# Altium footprint library Capacitor.PcbLib: 24 footprints (part 2 of 2)
Each footprint in its own frame and in the unit in brackets; x right, y up, seen from the top. Pads: shape width x height; smd on the part's side, far side on the other; paste and mask are expansions set on the pad; w line width, h text height; cw(c..) or ccw(c..) is an arc to the next point about the centre after c.
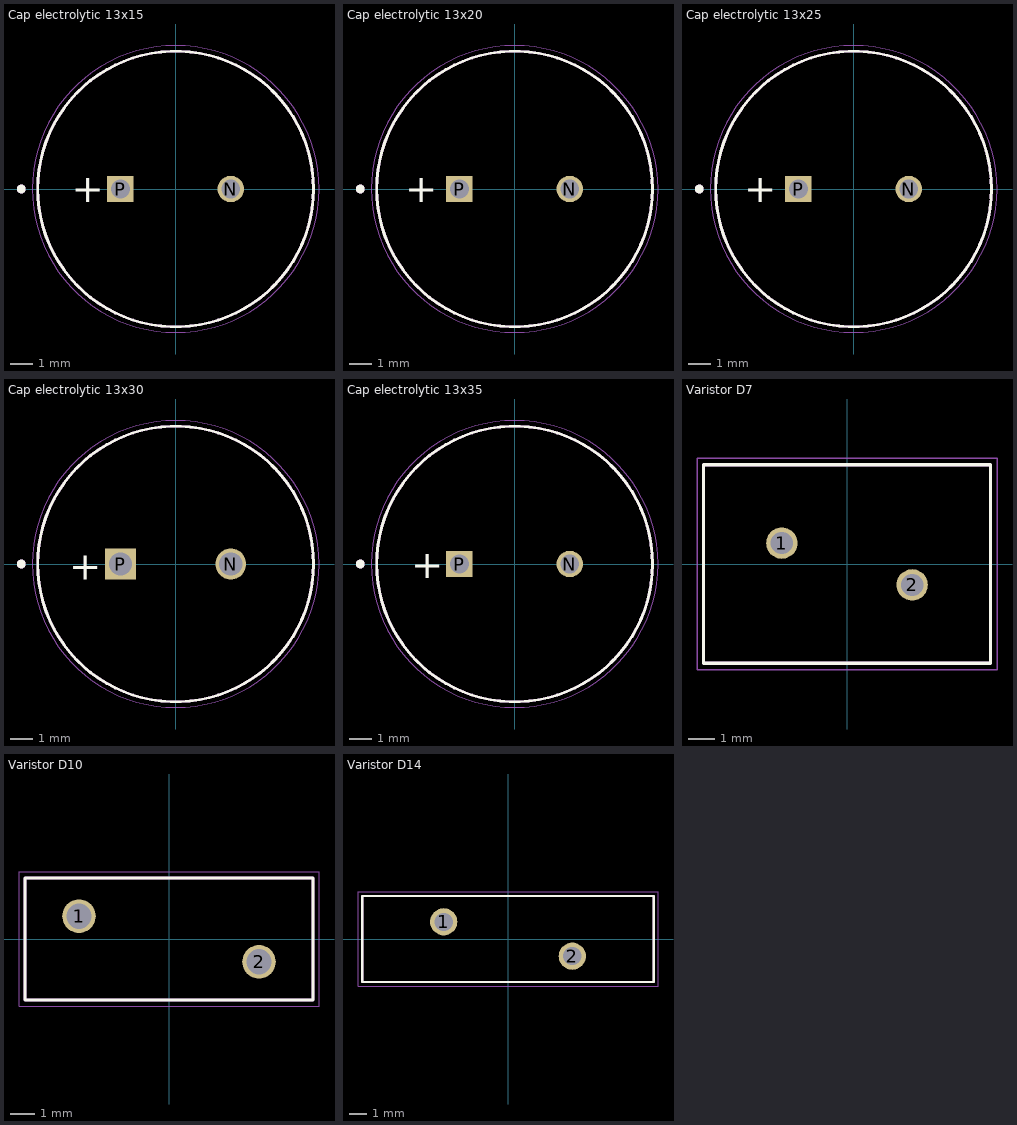
[diagram p1: the footprints below, top view; thin cyan lines are the x and y axes]

## Cap electrolytic 13x15 [mm]
pads (2):
  round 1.2 hole 0.85: N(2.5,0)
  rect 1.2x1.2 hole 0.85: P(-2.5,0)
Top Overlay:
  circle w0.2: c-7,0 r0.1
  circle w0.127: c0,0 r6.25
  text "+" at -4.699,-0.593 h1.27
Mechanical 13:
  circle w0.2: c-7,0 r0.1
  circle w0.127: c0,0 r6.25
Mechanical 15:
  circle w0.05: c0,0 r6.5
3D body "step_temp.STEP": height 15, standoff -17, extent -6.25,-6.247 6.25,6.247

## Cap electrolytic 13x20 [mm]
pads (2):
  round 1.2 hole 0.85: N(2.5,0)
  rect 1.2x1.2 hole 0.85: P(-2.5,0)
Top Overlay:
  circle w0.127: c0,0 r6.25
  circle w0.2: c-7,0 r0.1
  text "+" at -4.953,-0.593 h1.27
Mechanical 13:
  circle w0.127: c0,0 r6.25
  circle w0.2: c-7,0 r0.1
Mechanical 15:
  circle w0.05: c0,0 r6.5
3D body "step_temp.STEP": height 20, standoff -17, extent -6.25,-6.249 6.25,6.249

## Cap electrolytic 13x25 [mm]
pads (2):
  round 1.2 hole 0.85: N(2.5,0)
  rect 1.2x1.2 hole 0.85: P(-2.5,0)
Top Overlay:
  circle w0.2: c-7,0 r0.1
  circle w0.127: c0,0 r6.25
  text "+" at -4.953,-0.593 h1.27
Mechanical 13:
  circle w0.2: c-7,0 r0.1
  circle w0.127: c0,0 r6.25
Mechanical 15:
  circle w0.05: c0,0 r6.5
3D body "step_temp.STEP": height 25, standoff -17, extent -6.25,-6.246 6.25,6.246

## Cap electrolytic 13x30 [mm]
pads (2):
  round 1.4 hole 1.05: N(2.5,0)
  rect 1.4x1.4 hole 1.05: P(-2.5,0)
Top Overlay:
  circle w0.2: c-7,0 r0.1
  circle w0.127: c0,0 r6.25
  text "+" at -4.826,-0.72 h1.27
Mechanical 13:
  circle w0.2: c-7,0 r0.1
  circle w0.127: c0,0 r6.25
Mechanical 15:
  circle w0.05: c0,0 r6.5
3D body "step_temp.STEP": height 30, standoff -17, extent -6.25,-6.25 6.25,6.25

## Cap electrolytic 13x35 [mm]
pads (2):
  round 1.2 hole 0.85: N(2.5,0)
  rect 1.2x1.2 hole 0.85: P(-2.5,0)
Top Overlay:
  circle w0.127: c0,0 r6.25
  circle w0.2: c-7,0 r0.1
  text "+" at -4.677,-0.646 h1.27
Mechanical 13:
  circle w0.127: c0,0 r6.25
  circle w0.2: c-7,0 r0.1
Mechanical 15:
  circle w0.05: c0,0 r6.5
3D body "step_temp.STEP": height 35, standoff -17, extent -6.25,-6.249 6.25,6.249

## Varistor D7 [mm]
pads (2):
  round 1.2 hole 0.85: 1(-2.5,0.8) 2(2.5,-0.8)
Top Overlay:
  lines w0.127: -5.5,-3.8 5.5,-3.8 5.5,3.8 -5.5,3.8 -5.5,-3.8
Mechanical 13:
  lines w0.127: -5.5,-3.8 -5.5,3.8 5.5,3.8 5.5,-3.8 -5.5,-3.8
Mechanical 15:
  lines w0.05: -5.75,-4.05 -5.75,4.05 5.75,4.05 5.75,-4.05 -5.75,-4.05
3D body "step_temp.STEP": height 12, standoff -20, extent -4,-2.7 4,2.7

## Varistor D10 [mm]
pads (2):
  round 1.4 hole 1.05: 1(-3.75,0.95) 2(3.75,-0.95)
Top Overlay:
  lines w0.127: -6,-2.55 6,-2.55 6,2.55 -6,2.55 -6,-2.55
Mechanical 13:
  lines w0.127: -6,-2.55 -6,2.55 6,2.55 6,-2.55 -6,-2.55
Mechanical 15:
  lines w0.05: -6.25,-2.8 -6.25,2.8 6.25,2.8 6.25,-2.8 -6.25,-2.8
3D body "471KD10J--3DModel-STEP-269445.STEP": height 16, standoff -20, extent -5.625,-2.5 5.625,2.5

## Varistor D14 [mm]
pads (2):
  round 1.59 hole 1.06: 1(-3.75,1) 2(3.75,-1)
Top Overlay:
  lines w0.127: -8.5,-2.5 8.5,-2.5 8.5,2.5 -8.5,2.5 -8.5,-2.5
Mechanical 13:
  lines w0.127: -8.5,-2.5 8.5,-2.5 8.5,2.5 -8.5,2.5 -8.5,-2.5
Mechanical 15:
  lines w0.05: -8.75,-2.75 8.75,-2.75 8.75,2.75 -8.75,2.75 -8.75,-2.75
3D body "step_temp.STEP": height 16, standoff -20, extent -5.625,-1.55 5.625,1.55